# Altium integrated library Altium_WCAP-ASLI (rev25a).IntLib: 143 symbols (part 3 of 3)
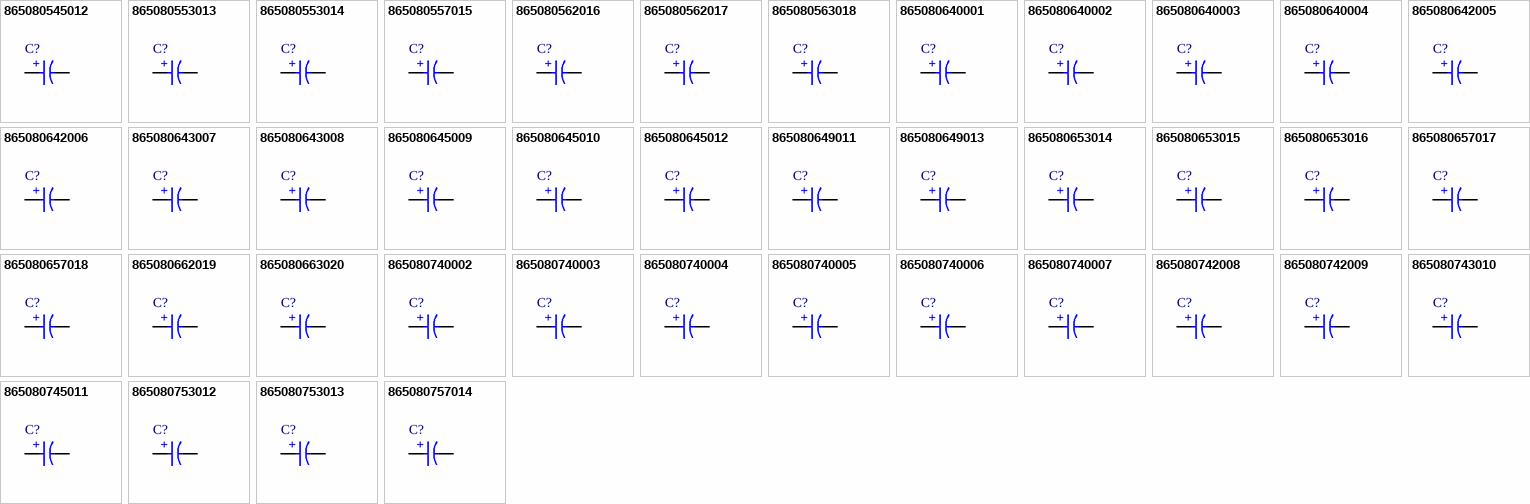
[diagram p5: symbols 865080545012 to 865080757014]

## 865080740004
designator C?, comment 0.33μF  (value not drawn)
WCAP-ASLI Aluminum Electrolytic Capacitor, V-Chip, SMT, 4mm x 5.5mm, 0.33μF, 63V; Manufacturer Part Number: 865080740004; Manufacturer: Wurth Elektronik; Dissipation Factor: 12%; Endurance: 2000h; Leakage Current: 3μA; Ripple Current: 3mA; Category: Aluminum Electrolytic Capacitors; Match Code: WCAP-ASLI; ComponentLink1Description: Website Link; ComponentLink1URL: https://www.we-online.com/redexpert/article/865080740004?ad; ComponentLink2Description: Datasheet Link; ComponentLink2URL: https://www.we-online.com/redexpert/spec/865080740004?ad; Mount: Surface Mount; Min Operating Temperature: -55°C; Max Operating Temperature: 105°C; Packaging: Tape and Reel; Height: 5.5mm; Diameter: 4mm; Capacitance: 0.33μF; Rated Voltage (DC): 63V
footprint WCAP-ASLI_D4H5.5
simulation model 865080740004_330nF
pins: 1 P, 2 N
text: +

## 865080740005
designator C?, comment 0.47μF  (value not drawn)
WCAP-ASLI Aluminum Electrolytic Capacitor, V-Chip, SMT, 4mm x 5.5mm, 0.47μF, 63V; Manufacturer Part Number: 865080740005; Manufacturer: Wurth Elektronik; Dissipation Factor: 12%; Endurance: 2000h; Impedance: 21017mΩ; Leakage Current: 3μA; Ripple Current: 3.5mA; Category: Aluminum Electrolytic Capacitors; Match Code: WCAP-ASLI; ComponentLink1Description: Website Link; ComponentLink1URL: https://www.we-online.com/redexpert/article/865080740005?ad; ComponentLink2Description: Datasheet Link; ComponentLink2URL: https://www.we-online.com/redexpert/spec/865080740005?ad; Mount: Surface Mount; Min Operating Temperature: -55°C; Max Operating Temperature: 105°C; Packaging: Tape and Reel; Height: 5.5mm; Diameter: 4mm; Capacitance: 0.47μF; Rated Voltage (DC): 63V
footprint WCAP-ASLI_D4H5.5
simulation model 865080740005_470nF
pins: 1 P, 2 N
text: +

## 865080740006
designator C?, comment 1μF  (value not drawn)
WCAP-ASLI Aluminum Electrolytic Capacitor, V-Chip, SMT, 4mm x 5.5mm, 1μF, 63V; Manufacturer Part Number: 865080740006; Manufacturer: Wurth Elektronik; Dissipation Factor: 12%; Endurance: 2000h; Impedance: 20749mΩ; Leakage Current: 3μA; Ripple Current: 7mA; Category: Aluminum Electrolytic Capacitors; Match Code: WCAP-ASLI; ComponentLink1Description: Website Link; ComponentLink1URL: https://www.we-online.com/redexpert/article/865080740006?ad; ComponentLink2Description: Datasheet Link; ComponentLink2URL: https://www.we-online.com/redexpert/spec/865080740006?ad; Mount: Surface Mount; Min Operating Temperature: -55°C; Max Operating Temperature: 105°C; Packaging: Tape and Reel; Height: 5.5mm; Diameter: 4mm; Capacitance: 1μF; Rated Voltage (DC): 63V
footprint WCAP-ASLI_D4H5.5
simulation model 865080740006_1uF
pins: 1 P, 2 N
text: +

## 865080740007
designator C?, comment 2.2μF  (value not drawn)
WCAP-ASLI Aluminum Electrolytic Capacitor, V-Chip, SMT, 4mm x 5.5mm, 2.2μF, 63V; Manufacturer Part Number: 865080740007; Manufacturer: Wurth Elektronik; Dissipation Factor: 12%; Endurance: 2000h; Impedance: 6111mΩ; Leakage Current: 3μA; Ripple Current: 11mA; Category: Aluminum Electrolytic Capacitors; Match Code: WCAP-ASLI; ComponentLink1Description: Website Link; ComponentLink1URL: https://www.we-online.com/redexpert/article/865080740007?ad; ComponentLink2Description: Datasheet Link; ComponentLink2URL: https://www.we-online.com/redexpert/spec/865080740007?ad; Mount: Surface Mount; Min Operating Temperature: -55°C; Max Operating Temperature: 105°C; Packaging: Tape and Reel; Height: 5.5mm; Diameter: 4mm; Capacitance: 2.2μF; Rated Voltage (DC): 63V
footprint WCAP-ASLI_D4H5.5
simulation model 865080740007_2.2uF
pins: 1 P, 2 N
text: +

## 865080742008
designator C?, comment 3.3μF  (value not drawn)
WCAP-ASLI Aluminum Electrolytic Capacitor, V-Chip, SMT, 5mm x 5.5mm, 3.3μF, 63V; Manufacturer Part Number: 865080742008; Manufacturer: Wurth Elektronik; Dissipation Factor: 12%; Endurance: 2000h; Impedance: 4236mΩ; Leakage Current: 3μA; Ripple Current: 14mA; Category: Aluminum Electrolytic Capacitors; Match Code: WCAP-ASLI; ComponentLink1Description: Website Link; ComponentLink1URL: https://www.we-online.com/redexpert/article/865080742008?ad; ComponentLink2Description: Datasheet Link; ComponentLink2URL: https://www.we-online.com/redexpert/spec/865080742008?ad; Mount: Surface Mount; Min Operating Temperature: -55°C; Max Operating Temperature: 105°C; Packaging: Tape and Reel; Height: 5.5mm; Diameter: 5mm; Capacitance: 3.3μF; Rated Voltage (DC): 63V
footprint WCAP-ASLI_D5H5.5
simulation model 865080742008_3.3uF
pins: 1 P, 2 N
text: +

## 865080742009
designator C?, comment 4.7μF  (value not drawn)
WCAP-ASLI Aluminum Electrolytic Capacitor, V-Chip, SMT, 5mm x 5.5mm, 4.7μF, 63V; Manufacturer Part Number: 865080742009; Manufacturer: Wurth Elektronik; Dissipation Factor: 12%; Endurance: 2000h; Impedance: 4193mΩ; Leakage Current: 3μA; Ripple Current: 22mA; Category: Aluminum Electrolytic Capacitors; Match Code: WCAP-ASLI; ComponentLink1Description: Website Link; ComponentLink1URL: https://www.we-online.com/redexpert/article/865080742009?ad; ComponentLink2Description: Datasheet Link; ComponentLink2URL: https://www.we-online.com/redexpert/spec/865080742009?ad; Mount: Surface Mount; Min Operating Temperature: -55°C; Max Operating Temperature: 105°C; Packaging: Tape and Reel; Height: 5.5mm; Diameter: 5mm; Capacitance: 4.7μF; Rated Voltage (DC): 63V
footprint WCAP-ASLI_D5H5.5
simulation model 865080742009_4.7uF
pins: 1 P, 2 N
text: +

## 865080743010
designator C?, comment 10μF  (value not drawn)
WCAP-ASLI Aluminum Electrolytic Capacitor, V-Chip, SMT, 6.3mm x 5.5mm, 10μF, 63V; Manufacturer Part Number: 865080743010; Manufacturer: Wurth Elektronik; Dissipation Factor: 12%; Endurance: 2000h; Impedance: 1928mΩ; Leakage Current: 6.3μA; Ripple Current: 40mA; Category: Aluminum Electrolytic Capacitors; Match Code: WCAP-ASLI; ComponentLink1Description: Website Link; ComponentLink1URL: https://www.we-online.com/redexpert/article/865080743010?ad; ComponentLink2Description: Datasheet Link; ComponentLink2URL: https://www.we-online.com/redexpert/spec/865080743010?ad; Mount: Surface Mount; Min Operating Temperature: -55°C; Max Operating Temperature: 105°C; Packaging: Tape and Reel; Height: 5.5mm; Diameter: 6.3mm; Capacitance: 10μF; Rated Voltage (DC): 63V
footprint WCAP-ASLI_D6.3H5.5
simulation model 865080743010_10uF
pins: 1 P, 2 N
text: +

## 865080745011
designator C?, comment 22μF  (value not drawn)
WCAP-ASLI Aluminum Electrolytic Capacitor, V-Chip, SMT, 6.3mm x 7.7mm, 22μF, 63V; Manufacturer Part Number: 865080745011; Manufacturer: Wurth Elektronik; Dissipation Factor: 12%; Endurance: 2000h; Impedance: 1026mΩ; Leakage Current: 13.86μA; Ripple Current: 58mA; Category: Aluminum Electrolytic Capacitors; Match Code: WCAP-ASLI; ComponentLink1Description: Website Link; ComponentLink1URL: https://www.we-online.com/redexpert/article/865080745011?ad; ComponentLink2Description: Datasheet Link; ComponentLink2URL: https://www.we-online.com/redexpert/spec/865080745011?ad; Mount: Surface Mount; Min Operating Temperature: -55°C; Max Operating Temperature: 105°C; Packaging: Tape and Reel; Height: 7.7mm; Diameter: 6.3mm; Capacitance: 22μF; Rated Voltage (DC): 63V
footprint WCAP-ASLI_D6.3H7.7
simulation model 865080745011_22uF
pins: 1 P, 2 N
text: +

## 865080753012
designator C?, comment 33μF  (value not drawn)
WCAP-ASLI Aluminum Electrolytic Capacitor, V-Chip, SMT, 8mm x 10.5mm, 33μF, 63V; Manufacturer Part Number: 865080753012; Manufacturer: Wurth Elektronik; Dissipation Factor: 12%; Endurance: 2000h; Impedance: 452mΩ; Leakage Current: 20.79μA; Ripple Current: 112mA; Category: Aluminum Electrolytic Capacitors; Match Code: WCAP-ASLI; ComponentLink1Description: Website Link; ComponentLink1URL: https://www.we-online.com/redexpert/article/865080753012?ad; ComponentLink2Description: Datasheet Link; ComponentLink2URL: https://www.we-online.com/redexpert/spec/865080753012?ad; Mount: Surface Mount; Min Operating Temperature: -55°C; Max Operating Temperature: 105°C; Packaging: Tape and Reel; Height: 10.5mm; Diameter: 8mm; Capacitance: 33μF; Rated Voltage (DC): 63V
footprint WCAP-ASLI_D8H10.5
simulation model 865080753012_33uF
pins: 1 P, 2 N
text: +

## 865080753013
designator C?, comment 47μF  (value not drawn)
WCAP-ASLI Aluminum Electrolytic Capacitor, V-Chip, SMT, 8mm x 10.5mm, 47μF, 63V; Manufacturer Part Number: 865080753013; Manufacturer: Wurth Elektronik; Dissipation Factor: 12%; Endurance: 2000h; Impedance: 591mΩ; Leakage Current: 29.61μA; Ripple Current: 119mA; Category: Aluminum Electrolytic Capacitors; Match Code: WCAP-ASLI; ComponentLink1Description: Website Link; ComponentLink1URL: https://www.we-online.com/redexpert/article/865080753013?ad; ComponentLink2Description: Datasheet Link; ComponentLink2URL: https://www.we-online.com/redexpert/spec/865080753013?ad; Mount: Surface Mount; Min Operating Temperature: -55°C; Max Operating Temperature: 105°C; Packaging: Tape and Reel; Height: 10.5mm; Diameter: 8mm; Capacitance: 47μF; Rated Voltage (DC): 63V
footprint WCAP-ASLI_D8H10.5
simulation model 865080753013_47uF
pins: 1 P, 2 N
text: +

## 865080757014
designator C?, comment 100μF  (value not drawn)
WCAP-ASLI Aluminum Electrolytic Capacitor, V-Chip, SMT, 10mm x 10.5mm, 100μF, 63V; Manufacturer Part Number: 865080757014; Manufacturer: Wurth Elektronik; Dissipation Factor: 12%; Endurance: 2000h; Impedance: 346mΩ; Leakage Current: 63μA; Ripple Current: 280mA; Category: Aluminum Electrolytic Capacitors; Match Code: WCAP-ASLI; ComponentLink1Description: Website Link; ComponentLink1URL: https://www.we-online.com/redexpert/article/865080757014?ad; ComponentLink2Description: Datasheet Link; ComponentLink2URL: https://www.we-online.com/redexpert/spec/865080757014?ad; Mount: Surface Mount; Min Operating Temperature: -55°C; Max Operating Temperature: 105°C; Packaging: Tape and Reel; Height: 10.5mm; Diameter: 10mm; Capacitance: 100μF; Rated Voltage (DC): 63V
footprint WCAP-ASLI_D10H10.5
simulation model 865080757014_100uF
pins: 1 P, 2 N
text: +

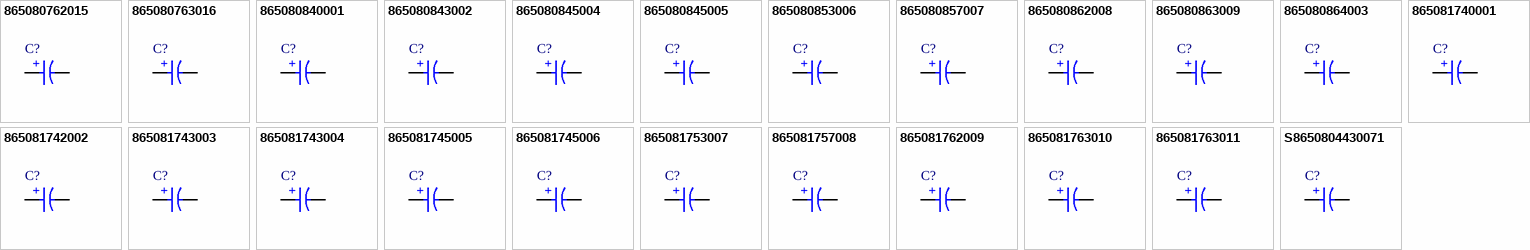
[diagram p3: symbols 865080762015 to S8650804430071]

## 865080762015
designator C?, comment 220μF  (value not drawn)
WCAP-ASLI Aluminum Electrolytic Capacitor, V-Chip, SMT, 12.5mm x 14mm, 220μF, 63V; Manufacturer Part Number: 865080762015; Manufacturer: Wurth Elektronik; Dissipation Factor: 12%; Endurance: 2000h; Impedance: 152mΩ; Leakage Current: 138.6μA; Ripple Current: 300mA; Category: Aluminum Electrolytic Capacitors; Match Code: WCAP-ASLI; ComponentLink1Description: Website Link; ComponentLink1URL: https://www.we-online.com/redexpert/article/865080762015?ad; ComponentLink2Description: Datasheet Link; ComponentLink2URL: https://www.we-online.com/redexpert/spec/865080762015?ad; Mount: Surface Mount; Min Operating Temperature: -55°C; Max Operating Temperature: 105°C; Packaging: Tape and Reel; Height: 14mm; Diameter: 12.5mm; Capacitance: 220μF; Rated Voltage (DC): 63V
footprint WCAP-ASLI_D12.5H14
simulation model 865080762015_220uF
pins: 1 P, 2 N
text: +

## 865080763016
designator C?, comment 470μF  (value not drawn)
WCAP-ASLI Aluminum Electrolytic Capacitor, V-Chip, SMT, 16mm x 17mm, 470μF, 63V; Manufacturer Part Number: 865080763016; Manufacturer: Wurth Elektronik; Dissipation Factor: 12%; Endurance: 2000h; Impedance: 125mΩ; Leakage Current: 296.1μA; Ripple Current: 630mA; Category: Aluminum Electrolytic Capacitors; Match Code: WCAP-ASLI; ComponentLink1Description: Website Link; ComponentLink1URL: https://www.we-online.com/redexpert/article/865080763016?ad; ComponentLink2Description: Datasheet Link; ComponentLink2URL: https://www.we-online.com/redexpert/spec/865080763016?ad; Mount: Surface Mount; Min Operating Temperature: -55°C; Max Operating Temperature: 105°C; Packaging: Tape and Reel; Height: 17mm; Diameter: 16mm; Capacitance: 470μF; Rated Voltage (DC): 63V
footprint WCAP-ASLI_D16H17
simulation model 865080763016_470uF
pins: 1 P, 2 N
text: +

## 865080840001
designator C?, comment 1μF  (value not drawn)
WCAP-ASLI Aluminum Electrolytic Capacitor, V-Chip, SMT, 4mm x 5.5mm, 1μF, 100V; Manufacturer Part Number: 865080840001; Manufacturer: Wurth Elektronik; Dissipation Factor: 10%; Endurance: 2000h; Impedance: 20381mΩ; Leakage Current: 3μA; Ripple Current: 7mA; Category: Aluminum Electrolytic Capacitors; Match Code: WCAP-ASLI; ComponentLink1Description: Website Link; ComponentLink1URL: https://www.we-online.com/redexpert/article/865080840001?ad; ComponentLink2Description: Datasheet Link; ComponentLink2URL: https://www.we-online.com/redexpert/spec/865080840001?ad; Mount: Surface Mount; Min Operating Temperature: -55°C; Max Operating Temperature: 105°C; Packaging: Tape and Reel; Height: 5.5mm; Diameter: 4mm; Capacitance: 1μF; Rated Voltage (DC): 100V
footprint WCAP-ASLI_D4H5.5
simulation model 865080840001_1uF
pins: 1 P, 2 N
text: +

## 865080843002
designator C?, comment 2.2μF  (value not drawn)
WCAP-ASLI Aluminum Electrolytic Capacitor, V-Chip, SMT, 6.3mm x 5.5mm, 2.2μF, 100V; Manufacturer Part Number: 865080843002; Manufacturer: Wurth Elektronik; Dissipation Factor: 10%; Endurance: 2000h; Impedance: 5267mΩ; Leakage Current: 3μA; Ripple Current: 13mA; Category: Aluminum Electrolytic Capacitors; Match Code: WCAP-ASLI; ComponentLink1Description: Website Link; ComponentLink1URL: https://www.we-online.com/redexpert/article/865080843002?ad; ComponentLink2Description: Datasheet Link; ComponentLink2URL: https://www.we-online.com/redexpert/spec/865080843002?ad; Mount: Surface Mount; Min Operating Temperature: -55°C; Max Operating Temperature: 105°C; Packaging: Tape and Reel; Height: 5.5mm; Diameter: 6.3mm; Capacitance: 2.2μF; Rated Voltage (DC): 100V
footprint WCAP-ASLI_D6.3H5.5
simulation model 865080843002_2.2uF
pins: 1 P, 2 N
text: +

## 865080845004
designator C?, comment 4.7μF  (value not drawn)
WCAP-ASLI Aluminum Electrolytic Capacitor, V-Chip, SMT, 6.3mm x 7.7mm, 4.7μF, 100V; Manufacturer Part Number: 865080845004; Manufacturer: Wurth Elektronik; Dissipation Factor: 10%; Endurance: 2000h; Impedance: 3142mΩ; Leakage Current: 4.7μA; Ripple Current: 28mA; Category: Aluminum Electrolytic Capacitors; Match Code: WCAP-ASLI; ComponentLink1Description: Website Link; ComponentLink1URL: https://www.we-online.com/redexpert/article/865080845004?ad; ComponentLink2Description: Datasheet Link; ComponentLink2URL: https://www.we-online.com/redexpert/spec/865080845004?ad; Mount: Surface Mount; Min Operating Temperature: -55°C; Max Operating Temperature: 105°C; Packaging: Tape and Reel; Height: 7.7mm; Diameter: 6.3mm; Capacitance: 4.7μF; Rated Voltage (DC): 100V
footprint WCAP-ASLI_D6.3H7.7
simulation model 865080845004_4.7uF
pins: 1 P, 2 N
text: +

## 865080845005
designator C?, comment 10μF  (value not drawn)
WCAP-ASLI Aluminum Electrolytic Capacitor, V-Chip, SMT, 6.3mm x 7.7mm, 10μF, 100V; Manufacturer Part Number: 865080845005; Manufacturer: Wurth Elektronik; Dissipation Factor: 10%; Endurance: 2000h; Impedance: 3178mΩ; Leakage Current: 10μA; Ripple Current: 35mA; Category: Aluminum Electrolytic Capacitors; Match Code: WCAP-ASLI; ComponentLink1Description: Website Link; ComponentLink1URL: https://www.we-online.com/redexpert/article/865080845005?ad; ComponentLink2Description: Datasheet Link; ComponentLink2URL: https://www.we-online.com/redexpert/spec/865080845005?ad; Mount: Surface Mount; Min Operating Temperature: -55°C; Max Operating Temperature: 105°C; Packaging: Tape and Reel; Height: 7.7mm; Diameter: 6.3mm; Capacitance: 10μF; Rated Voltage (DC): 100V
footprint WCAP-ASLI_D6.3H7.7
simulation model 865080845005_10uF
pins: 1 P, 2 N
text: +

## 865080853006
designator C?, comment 22μF  (value not drawn)
WCAP-ASLI Aluminum Electrolytic Capacitor, V-Chip, SMT, 8mm x 10.5mm, 22μF, 100V; Manufacturer Part Number: 865080853006; Manufacturer: Wurth Elektronik; Dissipation Factor: 10%; Endurance: 2000h; Impedance: 1298mΩ; Leakage Current: 22μA; Ripple Current: 85mA; Category: Aluminum Electrolytic Capacitors; Match Code: WCAP-ASLI; ComponentLink1Description: Website Link; ComponentLink1URL: https://www.we-online.com/redexpert/article/865080853006?ad; ComponentLink2Description: Datasheet Link; ComponentLink2URL: https://www.we-online.com/redexpert/spec/865080853006?ad; Mount: Surface Mount; Min Operating Temperature: -55°C; Max Operating Temperature: 105°C; Packaging: Tape and Reel; Height: 10.5mm; Diameter: 8mm; Capacitance: 22μF; Rated Voltage (DC): 100V
footprint WCAP-ASLI_D8H10.5
simulation model 865080853006_22uF
pins: 1 P, 2 N
text: +

## 865080857007
designator C?, comment 33μF  (value not drawn)
WCAP-ASLI Aluminum Electrolytic Capacitor, V-Chip, SMT, 10mm x 10.5mm, 33μF, 100V; Manufacturer Part Number: 865080857007; Manufacturer: Wurth Elektronik; Dissipation Factor: 10%; Endurance: 2000h; Impedance: 1031mΩ; Leakage Current: 33μA; Ripple Current: 135mA; Category: Aluminum Electrolytic Capacitors; Match Code: WCAP-ASLI; ComponentLink1Description: Website Link; ComponentLink1URL: https://www.we-online.com/redexpert/article/865080857007?ad; ComponentLink2Description: Datasheet Link; ComponentLink2URL: https://www.we-online.com/redexpert/spec/865080857007?ad; Mount: Surface Mount; Min Operating Temperature: -55°C; Max Operating Temperature: 105°C; Packaging: Tape and Reel; Height: 10.5mm; Diameter: 10mm; Capacitance: 33μF; Rated Voltage (DC): 100V
footprint WCAP-ASLI_D10H10.5
simulation model 865080857007_33uF
pins: 1 P, 2 N
text: +

## 865080862008
designator C?, comment 47μF  (value not drawn)
WCAP-ASLI Aluminum Electrolytic Capacitor, V-Chip, SMT, 12.5mm x 14mm, 47μF, 100V; Manufacturer Part Number: 865080862008; Manufacturer: Wurth Elektronik; Dissipation Factor: 10%; Endurance: 2000h; Impedance: 349mΩ; Leakage Current: 47μA; Ripple Current: 240mA; Category: Aluminum Electrolytic Capacitors; Match Code: WCAP-ASLI; ComponentLink1Description: Website Link; ComponentLink1URL: https://www.we-online.com/redexpert/article/865080862008?ad; ComponentLink2Description: Datasheet Link; ComponentLink2URL: https://www.we-online.com/redexpert/spec/865080862008?ad; Mount: Surface Mount; Min Operating Temperature: -55°C; Max Operating Temperature: 105°C; Packaging: Tape and Reel; Height: 14mm; Diameter: 12.5mm; Capacitance: 47μF; Rated Voltage (DC): 100V
footprint WCAP-ASLI_D12.5H14
simulation model 865080862008_47uF
pins: 1 P, 2 N
text: +

## 865080863009
designator C?, comment 150μF  (value not drawn)
WCAP-ASLI Aluminum Electrolytic Capacitor, V-Chip, SMT, 16mm x 17mm, 150μF, 100V; Manufacturer Part Number: 865080863009; Manufacturer: Wurth Elektronik; Dissipation Factor: 10%; Endurance: 2000h; Impedance: 267mΩ; Leakage Current: 150μA; Ripple Current: 500mA; Category: Aluminum Electrolytic Capacitors; Match Code: WCAP-ASLI; ComponentLink1Description: Website Link; ComponentLink1URL: https://www.we-online.com/redexpert/article/865080863009?ad; ComponentLink2Description: Datasheet Link; ComponentLink2URL: https://www.we-online.com/redexpert/spec/865080863009?ad; Mount: Surface Mount; Min Operating Temperature: -55°C; Max Operating Temperature: 105°C; Packaging: Tape and Reel; Height: 17mm; Diameter: 16mm; Capacitance: 150μF; Rated Voltage (DC): 100V
footprint WCAP-ASLI_D16H17
simulation model 865080863009_150uF
pins: 1 P, 2 N
text: +

## 865080864003
designator C?, comment 3.3μF  (value not drawn)
WCAP-ASLI Aluminum Electrolytic Capacitor, V-Chip, SMT, 6.3mm x 6.1mm, 3.3μF, 100V; Manufacturer Part Number: 865080864003; Manufacturer: Wurth Elektronik; Dissipation Factor: 10%; Endurance: 2000h; Impedance: 3800mΩ; Leakage Current: 3.3μA; Ripple Current: 20mA; Category: Aluminum Electrolytic Capacitors; Match Code: WCAP-ASLI; ComponentLink1Description: Website Link; ComponentLink1URL: https://www.we-online.com/redexpert/article/865080864003?ad; ComponentLink2Description: Datasheet Link; ComponentLink2URL: https://www.we-online.com/redexpert/spec/865080864003?ad; Mount: Surface Mount; Min Operating Temperature: -55°C; Max Operating Temperature: 105°C; Packaging: Tape and Reel; Height: 6.1mm; Diameter: 6.3mm; Capacitance: 3.3μF; Rated Voltage (DC): 100V
footprint WCAP-ASLI_D6.3H6.1
simulation model 865080864003_3.3uF
pins: 1 P, 2 N
text: +

## 865081740001
designator C?, comment 1μF  (value not drawn)
WCAP-ASLI Aluminum Electrolytic Capacitor, V-Chip, SMT, 4mm x 5.5mm, 1μF, 80V; Manufacturer Part Number: 865081740001; Manufacturer: Wurth Elektronik; Dissipation Factor: 10%; Endurance: 2000h; Impedance: 21618mΩ; Leakage Current: 3μA; Ripple Current: 7mA; Category: Aluminum Electrolytic Capacitors; Match Code: WCAP-ASLI; ComponentLink1Description: Website Link; ComponentLink1URL: https://www.we-online.com/redexpert/article/865081740001?ad; ComponentLink2Description: Datasheet Link; ComponentLink2URL: https://www.we-online.com/redexpert/spec/865081740001?ad; Mount: Surface Mount; Min Operating Temperature: -55°C; Max Operating Temperature: 105°C; Packaging: Tape and Reel; Height: 5.5mm; Diameter: 4mm; Capacitance: 1μF; Rated Voltage (DC): 80V
footprint WCAP-ASLI_D4H5.5
simulation model 865081740001_1uF
pins: 1 P, 2 N
text: +

## 865081742002
designator C?, comment 2.2μF  (value not drawn)
WCAP-ASLI Aluminum Electrolytic Capacitor, V-Chip, SMT, 5mm x 5.5mm, 2.2μF, 80V; Manufacturer Part Number: 865081742002; Manufacturer: Wurth Elektronik; Dissipation Factor: 10%; Endurance: 2000h; Impedance: 10386mΩ; Leakage Current: 3μA; Ripple Current: 12mA; Category: Aluminum Electrolytic Capacitors; Match Code: WCAP-ASLI; ComponentLink1Description: Website Link; ComponentLink1URL: https://www.we-online.com/redexpert/article/865081742002?ad; ComponentLink2Description: Datasheet Link; ComponentLink2URL: https://www.we-online.com/redexpert/spec/865081742002?ad; Mount: Surface Mount; Min Operating Temperature: -55°C; Max Operating Temperature: 105°C; Packaging: Tape and Reel; Height: 5.5mm; Diameter: 5mm; Capacitance: 2.2μF; Rated Voltage (DC): 80V
footprint WCAP-ASLI_D5H5.5
simulation model 865081742002_2.2uF
pins: 1 P, 2 N
text: +

## 865081743003
designator C?, comment 3.3μF  (value not drawn)
WCAP-ASLI Aluminum Electrolytic Capacitor, V-Chip, SMT, 6.3mm x 5.5mm, 3.3μF, 80V; Manufacturer Part Number: 865081743003; Manufacturer: Wurth Elektronik; Dissipation Factor: 10%; Endurance: 2000h; Impedance: 7260mΩ; Leakage Current: 3μA; Ripple Current: 17mA; Category: Aluminum Electrolytic Capacitors; Match Code: WCAP-ASLI; ComponentLink1Description: Website Link; ComponentLink1URL: https://www.we-online.com/redexpert/article/865081743003?ad; ComponentLink2Description: Datasheet Link; ComponentLink2URL: https://www.we-online.com/redexpert/spec/865081743003?ad; Mount: Surface Mount; Min Operating Temperature: -55°C; Max Operating Temperature: 105°C; Packaging: Tape and Reel; Height: 5.5mm; Diameter: 6.3mm; Capacitance: 3.3μF; Rated Voltage (DC): 80V
footprint WCAP-ASLI_D6.3H5.5
simulation model 865081743003_3.3uF
pins: 1 P, 2 N
text: +

## 865081743004
designator C?, comment 4.7μF  (value not drawn)
WCAP-ASLI Aluminum Electrolytic Capacitor, V-Chip, SMT, 6.3mm x 5.5mm, 4.7μF, 80V; Manufacturer Part Number: 865081743004; Manufacturer: Wurth Elektronik; Dissipation Factor: 10%; Endurance: 2000h; Impedance: 6328mΩ; Leakage Current: 3.76μA; Ripple Current: 25mA; Category: Aluminum Electrolytic Capacitors; Match Code: WCAP-ASLI; ComponentLink1Description: Website Link; ComponentLink1URL: https://www.we-online.com/redexpert/article/865081743004?ad; ComponentLink2Description: Datasheet Link; ComponentLink2URL: https://www.we-online.com/redexpert/spec/865081743004?ad; Mount: Surface Mount; Min Operating Temperature: -55°C; Max Operating Temperature: 105°C; Packaging: Tape and Reel; Height: 5.5mm; Diameter: 6.3mm; Capacitance: 4.7μF; Rated Voltage (DC): 80V
footprint WCAP-ASLI_D6.3H5.5
simulation model 865081743004_4.7uF
pins: 1 P, 2 N
text: +

## 865081745005
designator C?, comment 10μF  (value not drawn)
WCAP-ASLI Aluminum Electrolytic Capacitor, V-Chip, SMT, 6.3mm x 7.7mm, 10μF, 80V; Manufacturer Part Number: 865081745005; Manufacturer: Wurth Elektronik; Dissipation Factor: 10%; Endurance: 2000h; Impedance: 2661mΩ; Leakage Current: 8μA; Ripple Current: 35mA; Category: Aluminum Electrolytic Capacitors; Match Code: WCAP-ASLI; ComponentLink1Description: Website Link; ComponentLink1URL: https://www.we-online.com/redexpert/article/865081745005?ad; ComponentLink2Description: Datasheet Link; ComponentLink2URL: https://www.we-online.com/redexpert/spec/865081745005?ad; Mount: Surface Mount; Min Operating Temperature: -55°C; Max Operating Temperature: 105°C; Packaging: Tape and Reel; Height: 7.7mm; Diameter: 6.3mm; Capacitance: 10μF; Rated Voltage (DC): 80V
footprint WCAP-ASLI_D6.3H7.7
simulation model 865081745005_10uF
pins: 1 P, 2 N
text: +

## 865081745006
designator C?, comment 22μF  (value not drawn)
WCAP-ASLI Aluminum Electrolytic Capacitor, V-Chip, SMT, 6.3mm x 7.7mm, 22μF, 80V; Manufacturer Part Number: 865081745006; Manufacturer: Wurth Elektronik; Dissipation Factor: 10%; Endurance: 2000h; Impedance: 2347mΩ; Leakage Current: 17.6μA; Ripple Current: 58mA; Category: Aluminum Electrolytic Capacitors; Match Code: WCAP-ASLI; ComponentLink1Description: Website Link; ComponentLink1URL: https://www.we-online.com/redexpert/article/865081745006?ad; ComponentLink2Description: Datasheet Link; ComponentLink2URL: https://www.we-online.com/redexpert/spec/865081745006?ad; Mount: Surface Mount; Min Operating Temperature: -55°C; Max Operating Temperature: 105°C; Packaging: Tape and Reel; Height: 7.7mm; Diameter: 6.3mm; Capacitance: 22μF; Rated Voltage (DC): 80V
footprint WCAP-ASLI_D6.3H7.7
simulation model 865081745006_22uF
pins: 1 P, 2 N
text: +

## 865081753007
designator C?, comment 33μF  (value not drawn)
WCAP-ASLI Aluminum Electrolytic Capacitor, V-Chip, SMT, 8mm x 10.5mm, 33μF, 80V; Manufacturer Part Number: 865081753007; Manufacturer: Wurth Elektronik; Dissipation Factor: 10%; Endurance: 2000h; Impedance: 1542mΩ; Leakage Current: 26.4μA; Ripple Current: 112mA; Category: Aluminum Electrolytic Capacitors; Match Code: WCAP-ASLI; ComponentLink1Description: Website Link; ComponentLink1URL: https://www.we-online.com/redexpert/article/865081753007?ad; ComponentLink2Description: Datasheet Link; ComponentLink2URL: https://www.we-online.com/redexpert/spec/865081753007?ad; Mount: Surface Mount; Min Operating Temperature: -55°C; Max Operating Temperature: 105°C; Packaging: Tape and Reel; Height: 10.5mm; Diameter: 8mm; Capacitance: 33μF; Rated Voltage (DC): 80V
footprint WCAP-ASLI_D8H10.5
simulation model 865081753007_33uF
pins: 1 P, 2 N
text: +

## 865081757008
designator C?, comment 47μF  (value not drawn)
WCAP-ASLI Aluminum Electrolytic Capacitor, V-Chip, SMT, 10mm x 10.5mm, 47μF, 80V; Manufacturer Part Number: 865081757008; Manufacturer: Wurth Elektronik; Dissipation Factor: 10%; Endurance: 2000h; Impedance: 1159mΩ; Leakage Current: 37.6μA; Ripple Current: 160mA; Category: Aluminum Electrolytic Capacitors; Match Code: WCAP-ASLI; ComponentLink1Description: Website Link; ComponentLink1URL: https://www.we-online.com/redexpert/article/865081757008?ad; ComponentLink2Description: Datasheet Link; ComponentLink2URL: https://www.we-online.com/redexpert/spec/865081757008?ad; Mount: Surface Mount; Min Operating Temperature: -55°C; Max Operating Temperature: 105°C; Packaging: Tape and Reel; Height: 10.5mm; Diameter: 10mm; Capacitance: 47μF; Rated Voltage (DC): 80V
footprint WCAP-ASLI_D10H10.5
simulation model 865081757008_47uF
pins: 1 P, 2 N
text: +

## 865081762009
designator C?, comment 100μF  (value not drawn)
WCAP-ASLI Aluminum Electrolytic Capacitor, V-Chip, SMT, 12.5mm x 14mm, 100μF, 80V; Manufacturer Part Number: 865081762009; Manufacturer: Wurth Elektronik; Dissipation Factor: 10%; Endurance: 2000h; Impedance: 493mΩ; Leakage Current: 80μA; Ripple Current: 380mA; Category: Aluminum Electrolytic Capacitors; Match Code: WCAP-ASLI; ComponentLink1Description: Website Link; ComponentLink1URL: https://www.we-online.com/redexpert/article/865081762009?ad; ComponentLink2Description: Datasheet Link; ComponentLink2URL: https://www.we-online.com/redexpert/spec/865081762009?ad; Mount: Surface Mount; Min Operating Temperature: -55°C; Max Operating Temperature: 105°C; Packaging: Tape and Reel; Height: 14mm; Diameter: 12.5mm; Capacitance: 100μF; Rated Voltage (DC): 80V
footprint WCAP-ASLI_D12.5H14
simulation model 865081762009_100uF
pins: 1 P, 2 N
text: +

## 865081763010
designator C?, comment 150μF  (value not drawn)
WCAP-ASLI Aluminum Electrolytic Capacitor, V-Chip, SMT, 16mm x 17mm, 150μF, 80V; Manufacturer Part Number: 865081763010; Manufacturer: Wurth Elektronik; Dissipation Factor: 10%; Endurance: 2000h; Impedance: 257mΩ; Leakage Current: 120μA; Ripple Current: 500mA; Category: Aluminum Electrolytic Capacitors; Match Code: WCAP-ASLI; ComponentLink1Description: Website Link; ComponentLink1URL: https://www.we-online.com/redexpert/article/865081763010?ad; ComponentLink2Description: Datasheet Link; ComponentLink2URL: https://www.we-online.com/redexpert/spec/865081763010?ad; Mount: Surface Mount; Min Operating Temperature: -55°C; Max Operating Temperature: 105°C; Packaging: Tape and Reel; Height: 17mm; Diameter: 16mm; Capacitance: 150μF; Rated Voltage (DC): 80V
footprint WCAP-ASLI_D16H17
simulation model 865081763010_150uF
pins: 1 P, 2 N
text: +

## 865081763011
designator C?, comment 220μF  (value not drawn)
WCAP-ASLI Aluminum Electrolytic Capacitor, V-Chip, SMT, 16mm x 17mm, 220μF, 80V; Manufacturer Part Number: 865081763011; Manufacturer: Wurth Elektronik; Dissipation Factor: 10%; Endurance: 2000h; Impedance: 224mΩ; Leakage Current: 176μA; Ripple Current: 600mA; Category: Aluminum Electrolytic Capacitors; Match Code: WCAP-ASLI; ComponentLink1Description: Website Link; ComponentLink1URL: https://www.we-online.com/redexpert/article/865081763011?ad; ComponentLink2Description: Datasheet Link; ComponentLink2URL: https://www.we-online.com/redexpert/spec/865081763011?ad; Mount: Surface Mount; Min Operating Temperature: -55°C; Max Operating Temperature: 105°C; Packaging: Tape and Reel; Height: 17mm; Diameter: 16mm; Capacitance: 220μF; Rated Voltage (DC): 80V
footprint WCAP-ASLI_D16H17
simulation model 865081763011_220uF
pins: 1 P, 2 N
text: +

## S8650804430071
designator C?, comment 47 µFμF  (value not drawn)
WCAP-ASLI Aluminum Electrolytic Capacitor, V-Chip, SMT, 6.3mm x 5.5mm, 47 µFμF, 25V; Manufacturer Part Number: S8650804430071; Manufacturer: Wurth Elektronik; Dissipation Factor: 14%; Endurance: 2000h; Impedance: 560mΩ; Leakage Current: 11.75μA; Ripple Current: 220mA; Category: Aluminum Electrolytic Capacitors; Match Code: WCAP-ASLI; ComponentLink1Description: Website Link; ComponentLink1URL: https://www.we-online.com/redexpert/article/S8650804430071?ad; ComponentLink2Description: Datasheet Link; ComponentLink2URL: https://www.we-online.com/redexpert/spec/S8650804430071?ad; Mount: Surface Mount; Min Operating Temperature: -55°C; Max Operating Temperature: 105°C; Packaging: Tape and Reel; Height: 5.5mm; Diameter: 6.3mm; Capacitance: 47 µFμF; Rated Voltage (DC): 25V
footprint WCAP-ASLI_D6.3H5.5
pins: 1 P, 2 N
text: +